# Altium footprint library Amplifiers.PcbLib: 1 footprints
Each footprint in its own frame and in the unit in brackets; x right, y up, seen from the top. Pads: shape width x height; smd on the part's side, far side on the other; paste and mask are expansions set on the pad; w line width, h text height; cw(c..) or ccw(c..) is an arc to the next point about the centre after c.
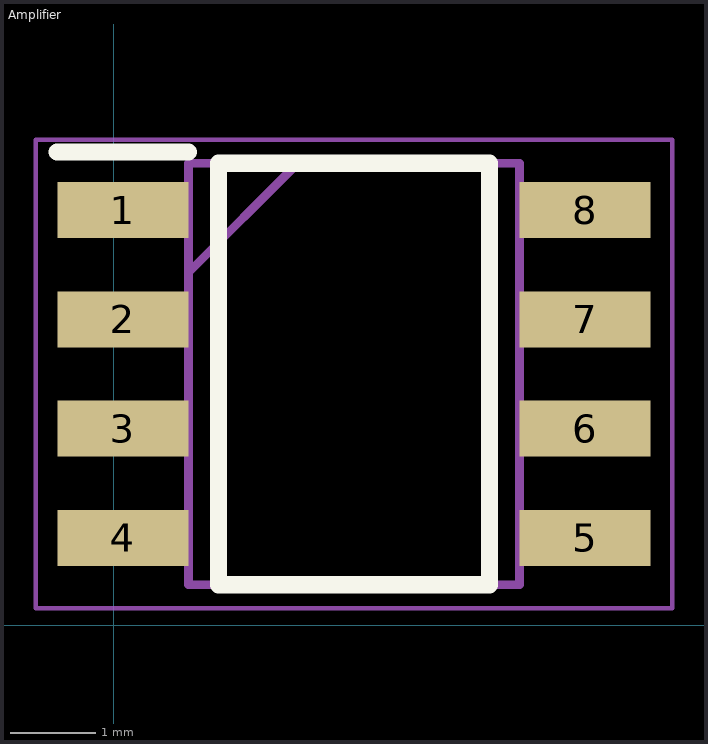
[diagram p0: the footprint, top view; thin cyan lines are the x and y axes]

## Amplifier [mm]
pads (8):
  rect 1.525x0.65 smd: 1(0.106,4.826) 2(0.106,3.556) 3(0.106,2.286) 4(0.106,1.016) 5(5.482,1.016) 6(5.482,2.286) 7(5.482,3.556) 8(5.482,4.826)
Top Overlay:
  lines w0.2: -0.656,5.501 0.869,5.501 ; 1.219,0.471 4.369,0.471 4.369,5.371 1.219,5.371 1.219,0.471
Mechanical 13:
  lines w0.1: 0.869,4.101 2.139,5.371 ; 0.869,0.471 4.719,0.471 4.719,5.371 0.869,5.371 0.869,0.471
Mechanical 15:
  lines w0.05: -0.906,0.196 6.494,0.196 6.494,5.646 -0.906,5.646 -0.906,0.196
3D body "PAM8302AADCR.stp": height 1.7, standoff 0, extent -0.206,0.471 5.794,5.371